# Altium footprint library KF128-3p.PcbLib: 1 footprints
Each footprint in its own frame and in the unit in brackets; x right, y up, seen from the top. Pads: shape width x height; smd on the part's side, far side on the other; paste and mask are expansions set on the pad; w line width, h text height; cw(c..) or ccw(c..) is an arc to the next point about the centre after c.
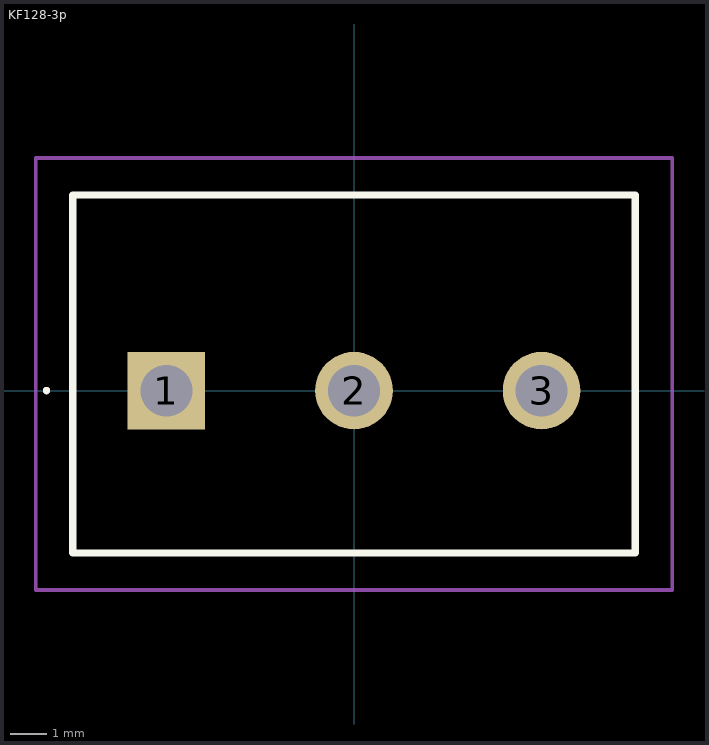
[diagram p0: the footprint, top view; thin cyan lines are the x and y axes]

## KF128-3p [mm]
pads (3):
  rect 2.1x2.1 hole 1.4: 1(-5.08,0)
  round 2.1 hole 1.4: 2(0,0) 3(5.08,0)
Top Overlay:
  lines w0.1: -8.38,0 ccw(c-8.33,0) -8.28,0 ccw(c-8.33,0) -8.38,0
  lines w0.2: -7.62,-4.4 -7.62,5.3 7.62,5.3 7.62,-4.4 -7.62,-4.4
Mechanical 13:
  lines w0.1: -7.62,-4.4 -7.62,5.3 7.62,5.3 7.62,-4.4 -7.62,-4.4
Mechanical 15:
  lines w0.1: -8.62,-5.4 -8.62,6.3 8.62,6.3 8.62,-5.4 -8.62,-5.4
3D body "KF128-5.08_3P.STEP": height 14.22, standoff -3.73, extent -7.666,-4.966 8.174,5.334